# Altium schematic symbol library MBRS340.SchLib: 1 symbol
Pins are listed as number, name and electrical type; pins without a type are passive.

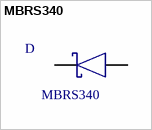
[diagram p0: symbol MBRS340]

## MBRS340
designator D  value MBRS340  (hidden comment: *)
Manufacturer: HY Electronics; Manufacturer Code: SS34; Current: 3A; Voltage: 40V; Farnell Code: 1843498; Unit Price: 0,155 €
footprint SMB
footprint SMB
pins: 1, 2